# EAGLE library part NMOSFET-D2PAK-7 (library D2PAK-7)
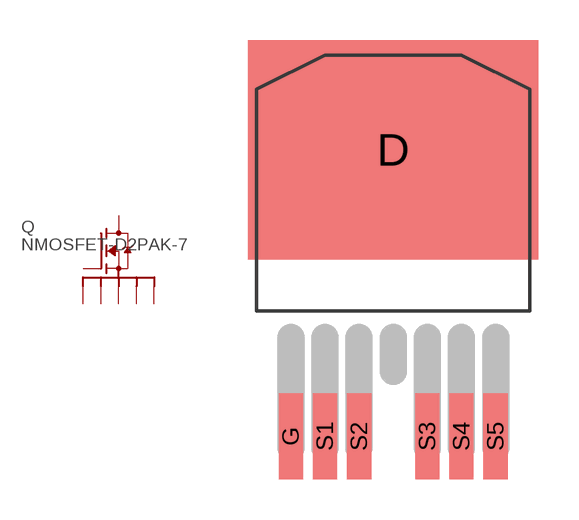
[diagram p0: symbol with the pads of D2PAK-7; footprint D2PAK-7]

Designator prefix Q

## NMOSFET-D2PAK-7  [D2PAK-7]
D  D  pas
G  G  pas
S1  S1  pas
S2  S2  pas
S3  S3  pas
S4  S4  pas
S5  S5  pas

## Footprint D2PAK-7 (pad centres in mm)
smd 10.8 x 8.15: D 0,4.1
smd 0.9 x 3.2: G -3.81,-6.56; S1 -2.54,-6.56; S2 -1.27,-6.56; S3 1.27,-6.56; S4 2.54,-6.56; S5 3.81,-6.56